# EAGLE library part BOB-FT232R-CABLE (library BOB-FT232R)
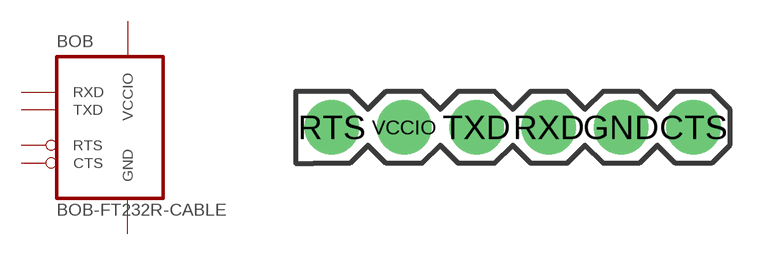
[diagram p2: symbol with the pads of BOB-FT232R-CABLE; footprint BOB-FT232R-CABLE]

Designator prefix BOB

## BOB-FT232R-CABLE  [BOB-FT232R-CABLE]
CTS  CTS
GND  GND  pwr
RTS  RTS
RXD  RXD  pas
TXD  TXD  pas
VCCIO  VCCIO  pwr

## Footprint BOB-FT232R-CABLE (pad centres in mm)
drill 1 pad 1.91 round: CTS 6.35,0; GND 3.81,0; RTS -6.35,0; RXD 1.27,0; TXD -1.27,0; VCCIO -3.81,0